# Altium footprint library MacroPlay.PcbLib: 42 footprints (part 3 of 3)
Each footprint in its own frame and in the unit in brackets; x right, y up, seen from the top. Pads: shape width x height; smd on the part's side, far side on the other; paste and mask are expansions set on the pad; w line width, h text height; cw(c..) or ccw(c..) is an arc to the next point about the centre after c.
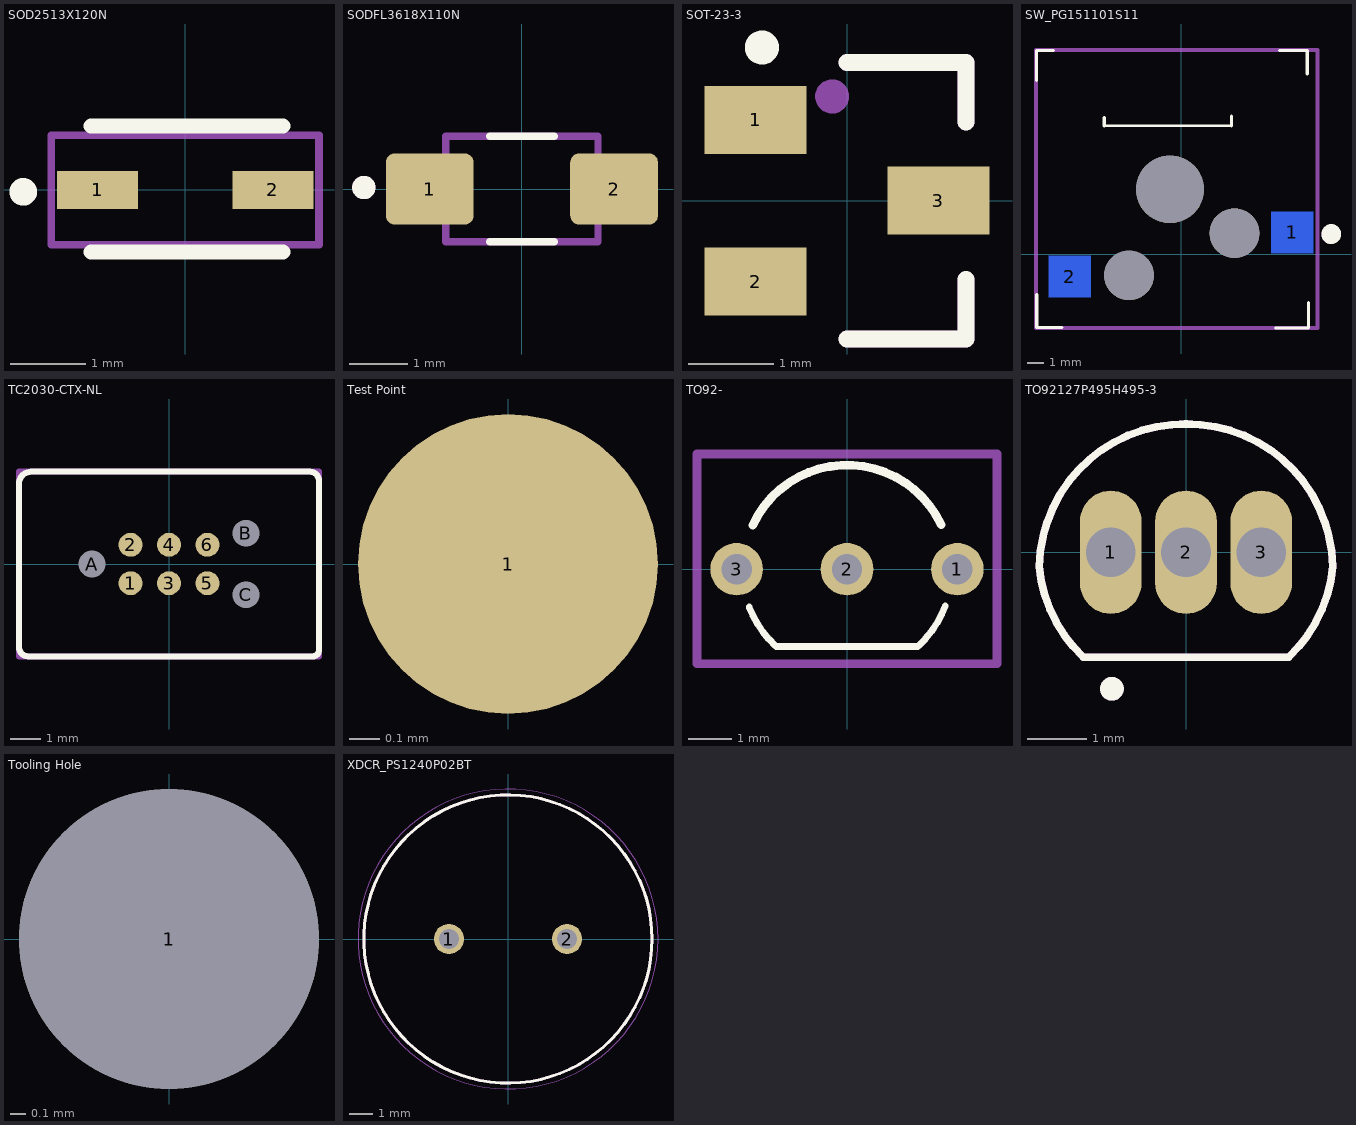
[diagram p2: the footprints below, top view; thin cyan lines are the x and y axes]

## SOD2513X120N [mm]
pads (2):
  rect 1.075x0.5 smd mask+0.05: 1(-1.162,0) 2(1.162,0)
Top Overlay:
  circle w0.254: c-2.15,-0.025 r0.056
  lines w0.2: -1.25,-0.825 1.3,-0.825 ; -1.25,0.85 1.3,0.85
Mechanical 29:
  circle w0.254: c-1.175,0 r0.025
  lines w0.1: -1.775,-0.725 1.775,-0.725 1.775,0.725 -1.775,0.725 -1.775,-0.725
  text "'.Designator'" at -0.775,-0.15 h1
3D body "1N4148WS-7-F.stp": height 1.11, standoff 0, extent -1.259,-0.65 1.259,0.65

## SODFL3618X110N [mm]
height 1.4
pads (2):
  rrect25% 1.5x1.22 smd: 1(-1.575,0) 2(1.575,0)
Top Overlay:
  circle w0.2: c-2.7,0.025 r0.1
  lines w0.127: -0.55,-0.9 0.55,-0.9 ; -0.55,0.9 0.55,0.9
Mechanical 29:
  circle w0.2: c-2.7,0.025 r0.1
  lines w0.127: -1.3,-0.9 -1.3,0.9 1.3,0.9 1.3,-0.9 -1.3,-0.9
  text "'.Designator'" at -0.75,-0.075 h1
3D body "1N4007W--3DModel-STEP-56544.STEP": height 1.3, standoff 0, extent -1.9,-0.925 1.9,0.875

## SOT-23-3 [mm] "SOT23, 3-Leads, Body 2,90x2,40mm, Pitch 1,05mm, IPC Medium Density"
height 1.15
pads (3):
  rect 1.2x0.8 smd mask+0.08: 1(-1.075,0.95) 2(-1.075,-0.95) 3(1.075,0)
Top Overlay:
  circle w0.2: c-1,1.8 r0.1
  lines w0.2: 0,-1.625 1.4,-1.625 1.4,-0.925 ; 0,1.625 1.4,1.625 1.4,0.925
Mechanical 29:
  circle w0.2: c-0.175,1.225 r0.1
  lines w0.2: 0,-1.625 1.4,-1.625 1.4,-0.925 ; 0,1.625 1.4,1.625 1.4,0.925
  text "'.Designator'" at -1.5,-0.5 h0.8
3D body "SOT105P240X115-3N.step": height 1.15, standoff 0, extent -1.275,-1.5 1.275,1.5

## SW_PG151101S11 [mm]
height 1.95
pads (5):
  rect 2.55x2.5 smd far side: 1(6.725,1.325) 2(-6.725,-1.35)
  round 3 hole 3 unplated: ""(-3.15,-1.275) ""(3.225,1.275)
  round 4.089 hole 4.089 unplated: ""(-0.675,3.925)
Top Overlay:
  circle w1: c9.075,1.225 r0.1
  lines w0.127: -4.65,7.775 3.05,7.775
  lines w0.2: -8.75,10.525 -8.75,12.325 -8.65,12.325 -7.725,12.325 ; -8.725,-2.425 -8.725,-4.425 -8.65,-4.425 -7.2,-4.425 ; -4.65,7.775 -4.65,8.25 ; 3.05,7.775 3.05,8.35 ; 5.7,-4.45 7.7,-4.45 7.7,-4.375 7.7,-2.925 ; 5.95,12.325 7.622,12.325 7.622,12.301 7.625,12.301 7.625,10.9
Bottom Overlay:
  lines w0.127: -5.45,0.65 -5.45,0.905 cw(c-4.95,0.905) -4.95,1.405 0.285,1.405 ccw(c0.285,2.795) 1.675,2.795 cw(c2.175,2.795) 2.175,3.295 ; -2.125,-3.1 3.825,-3.1 ccw(c3.825,-1.425) 5.5,-1.425 5.5,-0.455
Mechanical 29:
  circle w0.5: c9.05,1.2 r0.313
  lines w0.254: -8.775,-4.45 8.25,-4.45 8.25,12.35 -8.775,12.35 -8.775,-4.45
  text "'.Designator'" at -2.275,3.425 h2
3D body "G PRO 3.0 Switch KS-9E10B055NN-Y51.stp": height 15.18, standoff -3.02, extent -8.5,-4.15 7.2,11.95
3D body "step_temp.STEP": height -0.35, standoff -3.45, extent -7.25,-2.945 7.25,2.945
3D body "keycap.step": height 17, standoff 8, extent -9.049,-4.619 7.952,12.381

## TC2030-CTX-NL [mil]
pads (9):
  round 31 smd paste-19.68: 1(-50,-25) 2(-50,25) 3(0,-25) 4(0,25) 5(50,-25) 6(50,25)
  round 34 hole 35 unplated: A(-100,0) B(100,40) C(100,-40)
Top Overlay:
  lines w7.87: -195,-108.15 ccw(c-183.15,-108.15) -183.15,-120 187.09,-120 ccw(c187.09,-112.09) 195,-112.09 195,108.15 ccw(c183.15,108.15) 183.15,120 -179.21,120 ccw(c-179.21,104.21) -195,104.21 -195,-108.15
Mechanical 29:
  lines w7.87: -194.88,-120.08 -194.88,120.08 195,120.08 195,-120.08 -194.88,-120.08
  text "'.Designator'" at -82.68,-23.62 h33.46

## Test Point [mm]
pads (1):
  round 1 smd paste-1: 1(0,0)

## TO92- [mm]
pads (3):
  round 1.208 hole 0.7 mask+0.102: 1(2.54,0) 2(0,0) 3(-2.54,0)
Top Overlay:
  lines w0.152: -2.25,-0.87 ccw(c0,0) -1.645,-1.765 ; -1.631,-1.778 1.631,-1.778 ; 1.645,-1.765 ccw(c0,0) 2.262,-0.839
  lines w0.2: -2.17,1.011 cw(c0,0) 2.167,1.02
Mechanical 29:
  lines w0.2: -3.45,-2.175 -3.45,2.375 -3.45,2.65 3.45,2.65 3.45,-2.175 -3.45,-2.175
  text "'.Designator'" at -0.65,-0.05 h0.85
3D body "step_temp.STEP": height 9.34, standoff -8.7, extent -2.832,-1.35 2.832,2.33

## TO92127P495H495-3 [mm]
height 4.95
pads (3):
  oval 1.04x2.08 hole 0.84: 1(-1.27,0) 2(0,0) 3(1.27,0)
Top Overlay:
  circle w0.2: c-1.25,-2.305 r0.1
  lines w0.127: -2.476,-0.242 ccw(c-0.116,-0.036) -1.732,-1.769 ; -2.475,-0.24 cw(c-0.028,-0.282) 0.015,2.165 ; -1.725,-1.775 1.725,-1.775 ; -0.015,2.165 cw(c0.028,-0.282) 2.475,-0.24 ; 1.732,-1.769 ccw(c0.116,-0.036) 2.476,-0.242
Mechanical 29:
  circle w0.2: c-1.25,-2.305 r0.1
  lines w0.127: -2.476,-0.242 ccw(c-0.116,-0.036) -1.732,-1.769 ; -2.475,-0.24 cw(c-0.028,-0.282) 0.015,2.165 ; -1.725,-1.775 1.725,-1.775 ; -0.015,2.165 cw(c0.028,-0.282) 2.475,-0.24 ; 1.732,-1.769 ccw(c0.116,-0.036) 2.476,-0.242
  text "'.Designator'" at -0.665,-0.062 h0.85
3D body "2N3904--3DModel-STEP-1.STEP": height 5.04, standoff -3.9, extent -2.276,-1.575 2.276,2.257

## Tooling Hole [mm]
pads (1):
  round 2 hole 2 unplated: 1(0,0)

## XDCR_PS1240P02BT [mm]
pads (2):
  round 1.28 hole 0.85: 1(-2.5,0) 2(2.5,0)
Top Overlay:
  circle w0.127: c0,0 r6.1
Mechanical 15:
  circle w0.05: c0,0 r6.35
Mechanical 29:
  circle w0.127: c0,0 r6.1
  text "'.Designator'" at -0.6,-0.051 h0.85
3D body "PS1240P02BT.STEP": height 6.6, standoff -3.3, extent -6.085,-6.023 6.115,6.177